# Altium footprint library AvionicsParts.PcbLib: 33 footprints (part 3 of 3)
Each footprint in its own frame and in the unit in brackets; x right, y up, seen from the top. Pads: shape width x height; smd on the part's side, far side on the other; paste and mask are expansions set on the pad; w line width, h text height; cw(c..) or ccw(c..) is an arc to the next point about the centre after c.
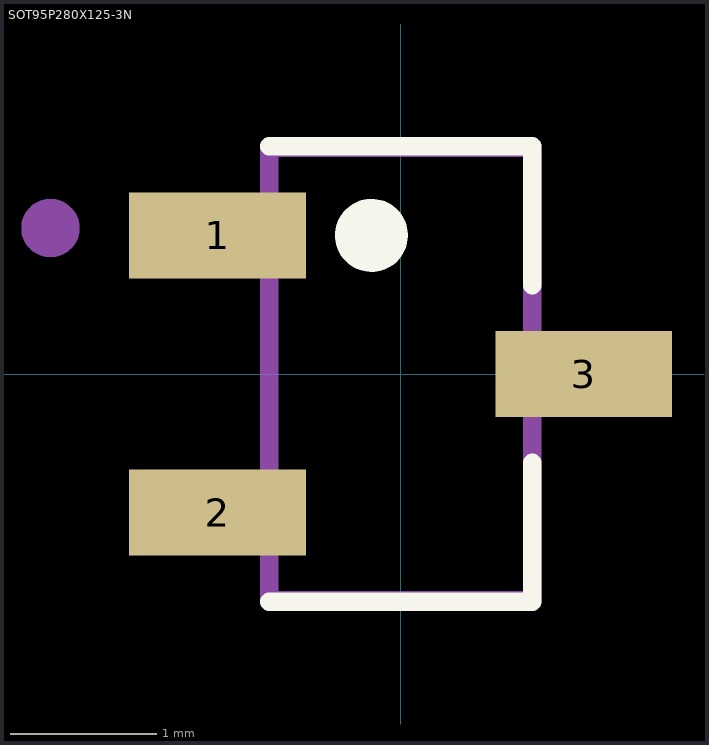
[diagram p2: the footprint, top view; thin cyan lines are the x and y axes]

## SOT95P280X125-3N [mm]
pads (3):
  rect 1.21x0.59 smd: 1(-1.255,0.95) 2(-1.255,-0.95) 3(1.255,0)
Top Overlay:
  circle w0.25: c-0.2,0.95 r0.125
  lines w0.127: -0.9,-1.559 0.9,-1.559 0.9,-0.609 ; -0.9,1.559 0.9,1.559 0.9,0.609
Mechanical 4:
  circle w0.2: c-2.4,1 r0.1
  circle w0.2: c-2.4,1 r0.1
  lines w0.127: -0.9,-1.55 0.9,-1.55 ; -0.9,-1.55 -0.9,1.55 ; -0.9,-1.55 0.9,-1.55 ; -0.9,-1.55 -0.9,1.55 ; -0.9,1.55 0.9,1.55 ; -0.9,1.55 0.9,1.55 ; 0.9,-1.55 0.9,1.55 ; 0.9,-1.55 0.9,1.55
3D body: height 1, standoff 0.1, extent -0.9,-1.6 0.9,1.55